# EAGLE library part LM339-14-SOIC (library Gucci_ControlBoard)
http://www.ti.com/lit/ds/symlink/lm139a.pdf https://www.digikey.com/product-detail/en/texas-instruments/LM339DR/296-1013-1-ND/404835
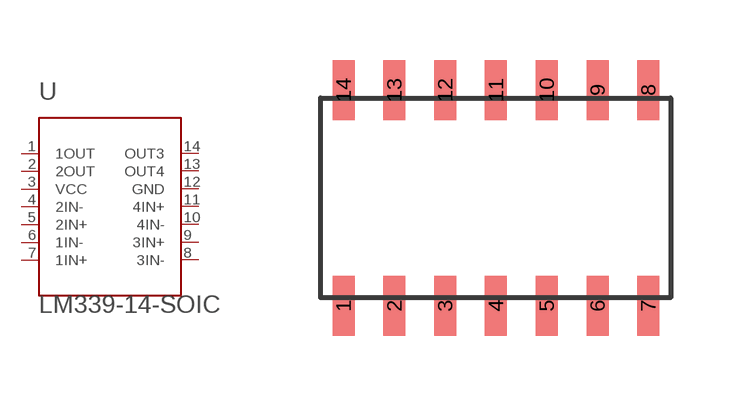
[diagram p4: symbol with the pads of 14-SOIC; footprint 14-SOIC]

Designator prefix -

## LM339-14-SOIC  [14-SOIC]
1  1OUT  pas
2  2OUT  pas
3  VCC  pas
4  2IN-  pas
5  2IN+  pas
6  1IN-  pas
7  1IN+  pas
8  3IN-  pas
9  3IN+  pas
10  4IN-  pas
11  4IN+  pas
12  GND  pas
13  OUT4  pas
14  OUT3  pas

## Footprint 14-SOIC (pad centres in mm)
smd 0.55 x 1.5: 1 -3.8,-2.7; 2 -2.53,-2.7; 3 -1.26,-2.7; 4 0.01,-2.7; 5 1.28,-2.7; 6 2.55,-2.7; 7 3.82,-2.7; 8 3.82,2.7; 9 2.55,2.7; 10 1.28,2.7; 11 0.01,2.7; 12 -1.26,2.7; 13 -2.53,2.7; 14 -3.8,2.7